# Altium schematic symbol library CH32V307_SCH.SchLib: 1 symbol
Pins are listed as number, name and electrical type; pins without a type are passive.

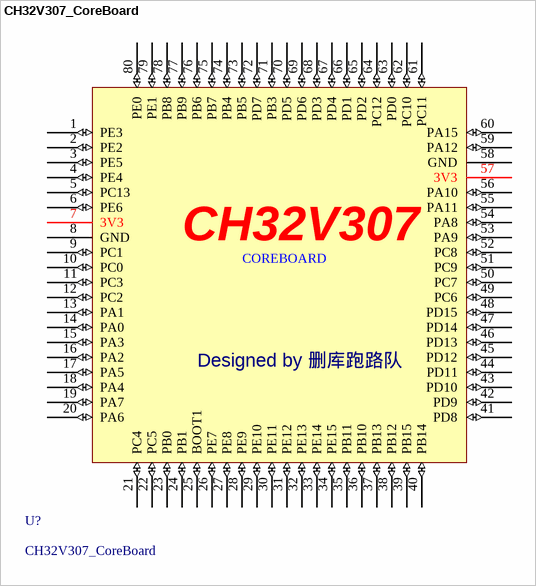
[diagram p0: symbol CH32V307_CoreBoard]

## CH32V307_CoreBoard
designator U?
footprint Model Name (Model Description)
footprint CH32V307_PCB
pins: 1 PE3 (io), 2 PE2 (io), 3 PE5 (io), 4 PE4 (io), 5 PC13 (io), 6 PE6 (io), 7 3V3, 8 GND, 9 PC1 (io), 10 PC0 (io), 11 PC3 (io), 12 PC2 (io), 13 PA1 (io), 14 PA0 (io), 15 PA3 (io), 16 PA2 (io), 17 PA5 (io), 18 PA4 (io), 19 PA7 (io), 20 PA6 (io), 21 PC4 (io), 22 PC5 (io), 23 PB0 (io), 24 PB1 (io), 25 BOOT1 (io), 26 PE7 (io), 27 PE8 (io), 28 PE9 (io), 29 PE10 (io), 30 PE11 (io), 31 PE12 (io), 32 PE13 (io), 33 PE14 (io), 34 PE15 (io), 35 PB11 (io), 36 PB10 (io), 37 PB13 (io), 38 PB12 (io), 39 PB15 (io), 40 PB14 (io), 41 PD8 (io), 42 PD9 (io), 43 PD10 (io), 44 PD11 (io), 45 PD12 (io), 46 PD13 (io), 47 PD14 (io), 48 PD15 (io), 49 PC6 (io), 50 PC7 (io), 51 PC9 (io), 52 PC8 (io), 53 PA9 (io), 54 PA8 (io), 55 PA11 (io), 56 PA10 (io), 57 3V3, 58 GND, 59 PA12 (io), 60 PA15 (io), 61 PC11 (io), 62 PC10 (io), 63 PD0 (io), 64 PC12 (io), 65 PD2 (io), 66 PD1 (io), 67 PD4 (io), 68 PD3 (io), 69 PD6 (io), 70 PD5 (io), 71 PB3 (io), 72 PD7 (io), 73 PB5 (io), 74 PB4 (io), 75 PB7 (io), 76 PB6 (io), 77 PB9 (io), 78 PB8 (io), 79 PE1 (io), 80 PE0 (io)
text: CH32V307; COREBOARD; Designed by 删库跑路队